# Altium footprint library PTS641TK31SMTR2LFS.PcbLib: 1 footprints
Each footprint in its own frame and in the unit in brackets; x right, y up, seen from the top. Pads: shape width x height; smd on the part's side, far side on the other; paste and mask are expansions set on the pad; w line width, h text height; cw(c..) or ccw(c..) is an arc to the next point about the centre after c.
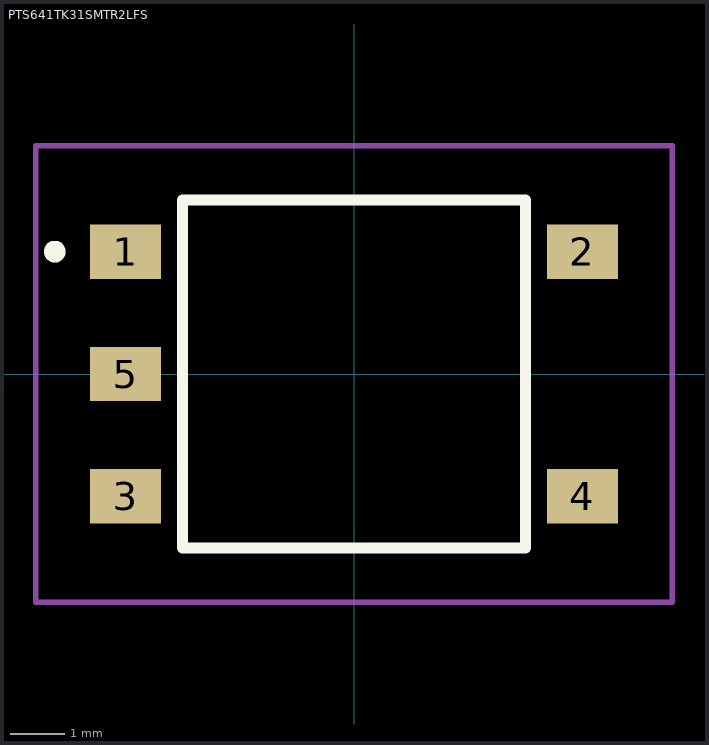
[diagram p0: the footprint, top view; thin cyan lines are the x and y axes]

## PTS641TK31SMTR2LFS [mm]
pads (5):
  rect 1.3x1 smd: 1(-4.2,2.25) 2(4.2,2.25) 3(-4.2,-2.25) 4(4.2,-2.25) 5(-4.2,0)
Top Overlay:
  lines w0.2: -5.6,2.25 cw(c-5.5,2.25) -5.4,2.25 ; -5.6,2.25 -5.6,2.25 ; -5.6,2.25 ccw(c-5.5,2.25) -5.4,2.25 ; -5.6,2.25 cw(c-5.5,2.25) -5.4,2.25 ; -5.4,2.25 -5.4,2.25 ; -5.4,2.25 -5.4,2.25 ; -3.15,-3.2 3.15,-3.2 3.15,3.2 -3.15,3.2 -3.15,-3.2
Mechanical 15:
  lines w0.1: -3.15,-3.2 3.15,-3.2 3.15,3.2 -3.15,3.2 -3.15,-3.2
Mechanical 20:
  lines w0.1: -5.85,-4.2 5.85,-4.2 5.85,4.2 -5.85,4.2 -5.85,-4.2